# Altium integrated library Pedal_Jacks.IntLib: 2 symbols
Pins are listed as number, name and electrical type; pins without a type are passive.

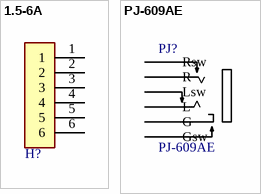
[diagram p0: symbols 1.5-6A to PJ-609AE]

## 1.5-6A
designator H?  (value not drawn)
Pin Header p=1.5mm, 6 pins
footprint 1.5-6A (Pin Header p=1.5mm, 6 pins)
pins: 1, 2, 3, 4, 5, 6

## PJ-609AE
designator PJ?
6.3mm jack HOOYA
footprint PJ609AE (HOOYA)
pins: 2 G, 3 Gsw, 4 R, 5 Rsw, 6 L, 7 Lsw